# Altium integrated library Silicon Labs Isolation and Power.IntLib: 421 symbols (part 6 of 19)
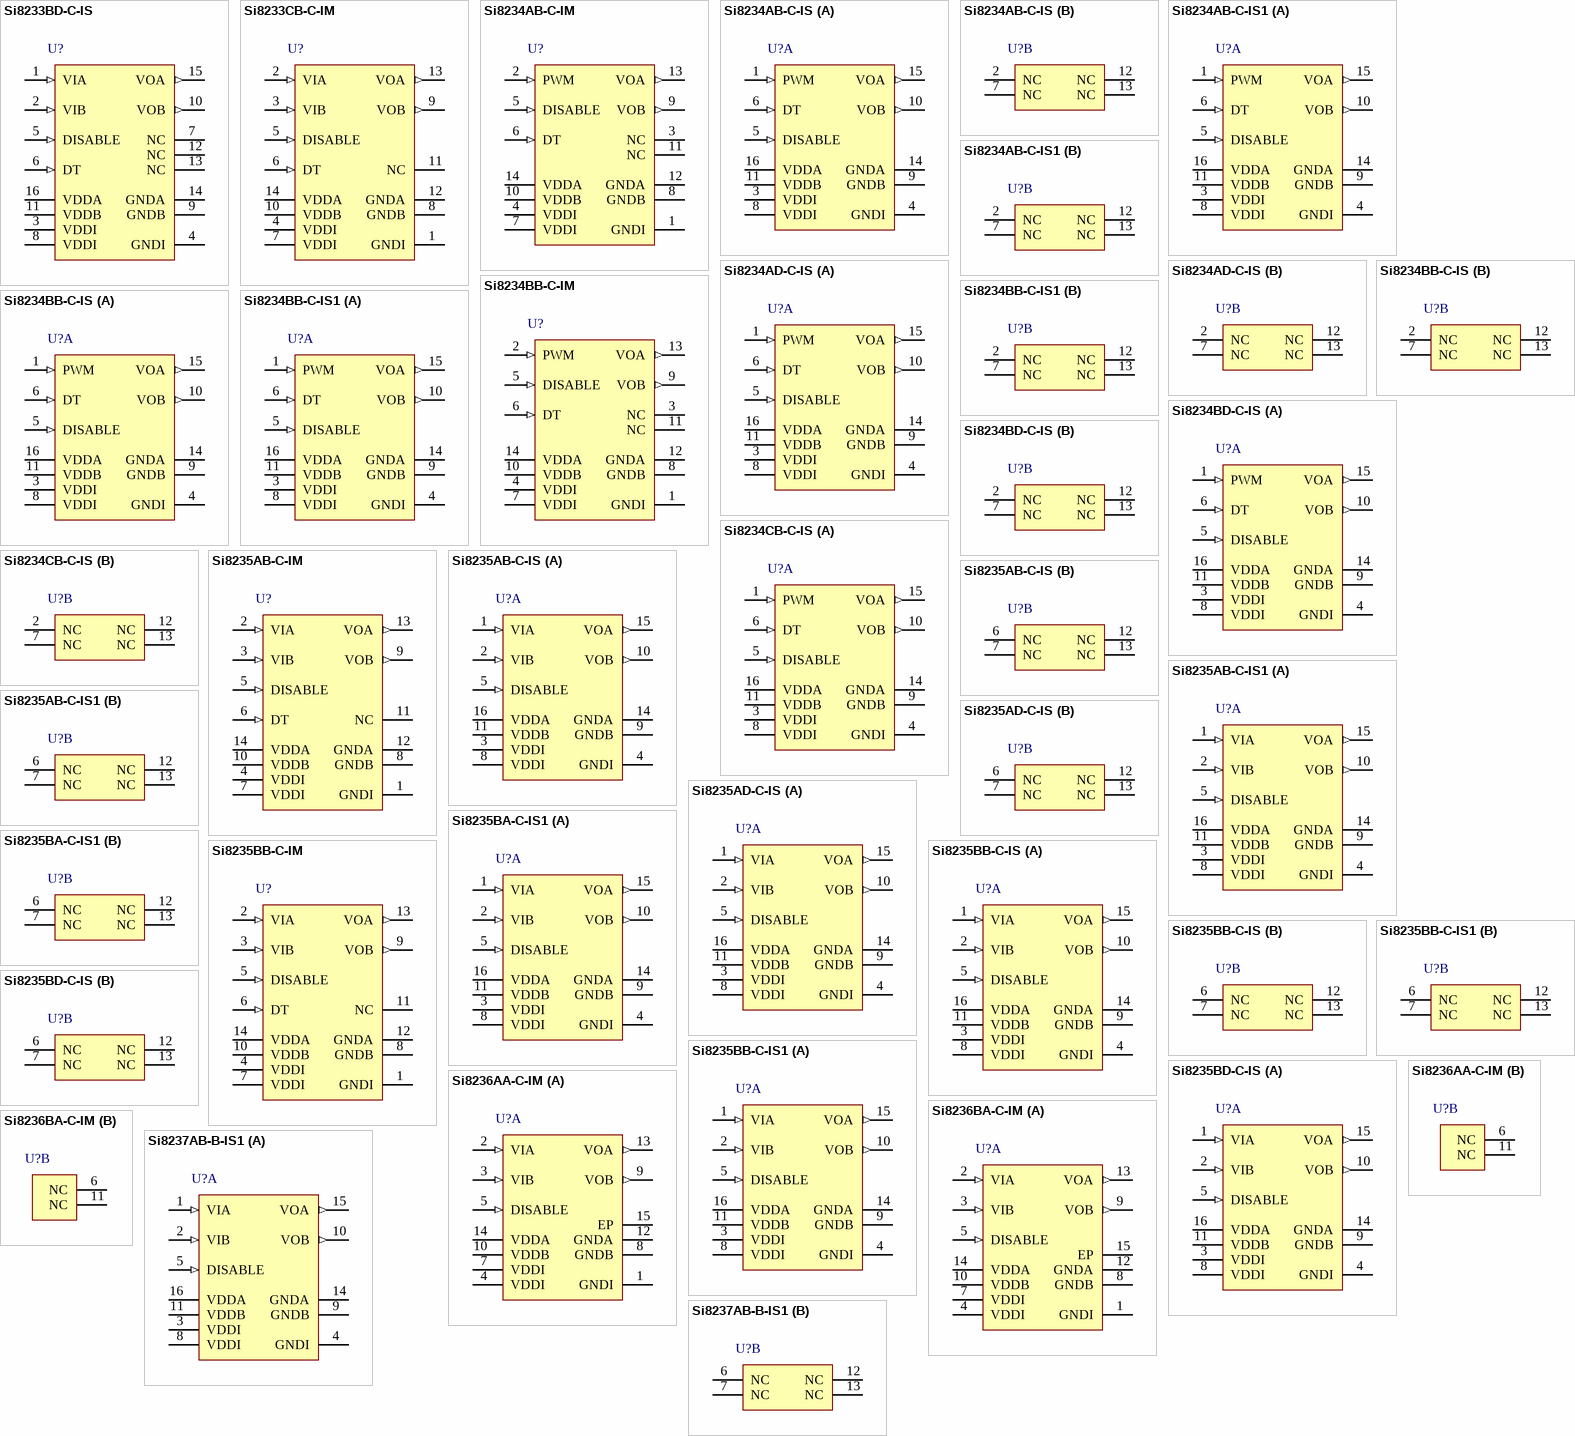
[diagram p19: symbols Si8233BD-C-IS to Si8237AB-B-IS1]

## Si8234CB-C-IS
designator U?
4 A ISOdrivers, 6.5 to 24 V Driver Supply, 2.5 kVRMS Isolation Rating, -40 to 125 degC, 16-pin SOIC; Manufacturer: Silicon Labs; PartNumber: Si8234CB-C-IS; Note: 0; 10kV surge: FALSE; Input Supply: 4.5 to 5.5 V; Isolation Rating (Input-Output, kVrms): 2.5; Max. Prop. Delay (ns): 60; Overlap Protection & Dead Time Control: TRUE; UVLO Voltage: 10 V; DatasheetVersion: Rev. 1.4; PackageReference: SOIC-16-WB; PackageDescription: 16-Pin Wide Body Plastic Small Outline, Body 10.3 x 7.5 mm, Pitch 1.27 mm; Driver Supply: 6.5 to 24 V; Input VDD: 4.5 to 5.5 V; Sub-Family: ISOdrivers; Mounting Technology: Surface Mount; Code_JEDEC: MS-013; ComponentLink1Description: Manufacturer URL; ComponentLink1URL: http://www.silabs.com/; ComponentLink2Description: Datasheet; ComponentLink2URL: https://www.silabs.com/Support%20Documents/TechnicalDocs/Si823x.pdf; ComponentLink3Description: Package Specification; ComponentLink3URL: https://www.silabs.com/Support%20Documents/TechnicalDocs/Si823x.pdf
footprint SLAB-SOIC-16-WB_N (SOIC, 16-Leads, Body 10.3x7.5mm, Pitch 1.27mm, IPC Medium Density)
footprint SLAB-SOIC-16-WB_L (SOIC, 16-Leads, Body 10.3x7.5mm, Pitch 1.27mm, IPC High Density)
footprint SLAB-SOIC-16-WB_M (SOIC, 16-Leads, Body 10.3x7.5mm, Pitch 1.27mm, IPC Low Density)
part A pins: 1 PWM (in) "PWM input.", 3 VDDI (power) "Input-side power supply terminal; connect to a source of 4.5 to 5.5 V.", 4 GNDI (power) "Input-side ground terminal.", 5 DISABLE (in) "Device Disable. When high, this input unconditionally drives outputs VOA, VOB LOW. It is strongly recommended that this input be connected to external logic level to avoid erroneous operation due to capacitive noise coupling.", 6 DT (in) "Dead time programming input. The value of the resistor connected from DT to ground sets the dead time between output transitions of VOA and VOB. Defaults to 1 ns dead time when connected to VDDI or left open (see "3.8. (See Datasheet)", 8 VDDI (power) "Input-side power supply terminal; connect to a source of 4.5 to 5.5 V.", 9 GNDB (power) "Ground terminal for Driver B.", 10 VOB (out) "Driver B output (low-side driver).", 11 VDDB (power) "Driver B power supply voltage terminal; connect to a source of 6.5 to 24 V.", 14 GNDA (power) "Ground terminal for Driver A.", 15 VOA (out) "Driver A output (high-side driver).", 16 VDDA (power) "Driver A power supply voltage terminal; connect to a source of 6.5 to 24 V."
part B pins: 2 NC "No connection.", 7 NC "No connection.", 12 NC "No connection.", 13 NC "No connection."

## Si8235AB-C-IM
designator U?
4 A ISOdrivers, 6.5 to 24 V Driver Supply, 2.5 kVRMS Isolation Rating, -40 to 125 degC, 14-pin LGA; Manufacturer: Silicon Labs; PartNumber: Si8235AB-C-IM; 10kV surge: FALSE; Input Supply: 4.5 to 5.5 V; Isolation Rating (Input-Output, kVrms): 2.5; Max. Prop. Delay (ns): 60; UVLO Voltage: 5 V; DatasheetVersion: Rev. 1.4; PackageReference: LGA14; PackageDescription: 14-Pin Land Grid Array, Body 5 x 5 mm, Pitch 0.65 mm; Supplier 1: Digi-Key; Supplier Part Number 1: SI8235AB-C-IM-ND; Supplier 2: Mouser; Supplier Part Number 2: 634-SI8235AB-C-IM; Driver Supply: 6.5 to 24 V; Input VDD: 4.5 to 5.5 V; Overlap Protection & Dead Time Control: FALSE; Sub-Family: ISOdrivers; Mounting Technology: Surface Mount; Code_IPC: J-STD-020; ComponentLink1Description: Manufacturer URL; ComponentLink1URL: http://www.silabs.com/; ComponentLink2Description: Datasheet; ComponentLink2URL: https://www.silabs.com/Support%20Documents/TechnicalDocs/Si823x.pdf; ComponentLink3Description: Package Specification; ComponentLink3URL: https://www.silabs.com/Support%20Documents/TechnicalDocs/Si823x.pdf
footprint SLAB-LGA14_V (LGA, 14-Leads, Body 5x5mm, Pitch 0.65mm)
pins: 1 GNDI (power) "Input-side ground terminal.", 2 VIA (in) "Non-inverting logic input terminal for Driver A.", 3 VIB (in) "Non-inverting logic input terminal for Driver B.", 4 VDDI (power) "Input-side power supply terminal; connect to a source of 4.5 to 5.5 V.", 5 DISABLE (in) "Device Disable. When high, this input unconditionally drives outputs VOA, VOB LOW. It is strongly recommended that this input be connected to external logic level to avoid erroneous operation due to capacitive noise coupling.", 6 DT (in) "Dead time programming input. The value of the resistor connected from DT to ground sets the dead time between output transitions of VOA and VOB. Defaults to 1 ns dead time when connected to VDDI or left open (see"3.8. (See Datasheet)", 7 VDDI (power) "Input-side power supply terminal; connect to a source of 4.5 to 5.5 V.", 8 GNDB (power) "Ground terminal for Driver B.", 9 VOB (out) "Driver B output (low-side driver).", 10 VDDB (power) "Driver B power supply voltage terminal; connect to a source of 6.5 to 24 V.", 11 NC "No connection.", 12 GNDA (power) "Ground terminal for Driver A.", 13 VOA (out) "Driver A output (high-side driver).", 14 VDDA (power) "Driver A power supply voltage terminal; connect to a source of 6.5 to 24 V."

## Si8235AB-C-IS
designator U?
4 A ISOdrivers, 6.5 to 24 V Driver Supply, 2.5 kVRMS Isolation Rating, -40 to 125 degC, 16-pin SOIC; Manufacturer: Silicon Labs; PartNumber: Si8235AB-C-IS; 10kV surge: FALSE; Input Supply: 4.5 to 5.5 V; Isolation Rating (Input-Output, kVrms): 2.5; Max. Prop. Delay (ns): 60; UVLO Voltage: 5 V; DatasheetVersion: Rev. 1.4; PackageReference: SOIC-16-WB; PackageDescription: 16-Pin Wide Body Plastic Small Outline, Body 10.3 x 7.5 mm, Pitch 1.27 mm; Supplier 1: Digi-Key; Supplier Part Number 1: SI8235AB-C-IS-ND; Supplier 2: Mouser; Supplier Part Number 2: 634-SI8235AB-C-IS; Driver Supply: 6.5 to 24 V; Input VDD: 4.5 to 5.5 V; Overlap Protection & Dead Time Control: FALSE; Sub-Family: ISOdrivers; Mounting Technology: Surface Mount; Code_JEDEC: MS-013; ComponentLink1Description: Manufacturer URL; ComponentLink1URL: http://www.silabs.com/; ComponentLink2Description: Datasheet; ComponentLink2URL: https://www.silabs.com/Support%20Documents/TechnicalDocs/Si823x.pdf; ComponentLink3Description: Package Specification; ComponentLink3URL: https://www.silabs.com/Support%20Documents/TechnicalDocs/Si823x.pdf
footprint SLAB-SOIC-16-WB_N (SOIC, 16-Leads, Body 10.3x7.5mm, Pitch 1.27mm, IPC Medium Density)
footprint SLAB-SOIC-16-WB_L (SOIC, 16-Leads, Body 10.3x7.5mm, Pitch 1.27mm, IPC High Density)
footprint SLAB-SOIC-16-WB_M (SOIC, 16-Leads, Body 10.3x7.5mm, Pitch 1.27mm, IPC Low Density)
part A pins: 1 VIA (in) "Non-inverting logic input terminal for Driver A.", 2 VIB (in) "Non-inverting logic input terminal for Driver B.", 3 VDDI (power) "Input-side power supply terminal; connect to a source of 4.5 to 5.5 V.", 4 GNDI (power) "Input-side ground terminal.", 5 DISABLE (in) "Device Disable. When high, this input unconditionally drives outputs VOA, VOB LOW. It is strongly recommended that this input be connected to external logic level to avoid erroneous operation due to capacitive noise coupling.", 8 VDDI (power) "Input-side power supply terminal; connect to a source of 4.5 to 5.5 V.", 9 GNDB (power) "Ground terminal for Driver B.", 10 VOB (out) "Driver B output", 11 VDDB (power) "Driver B power supply voltage terminal; connect to a source of 6.5 to 24 V.", 14 GNDA (power) "Ground terminal for Driver A.", 15 VOA (out) "Driver A output", 16 VDDA (power) "Driver A power supply voltage terminal; connect to a source of 6.5 to 24 V."
part B pins: 6 NC "No connection.", 7 NC "No connection.", 12 NC "No connection.", 13 NC "No connection."

## Si8235AB-C-IS1
designator U?
4 A ISOdrivers, 6.5 to 24 V Driver Supply, 2.5 kVRMS Isolation Rating, -40 to 125 degC, 16-pin SOIC; Manufacturer: Silicon Labs; PartNumber: Si8235AB-C-IS1; 10kV surge: FALSE; Input Supply: 4.5 to 5.5 V; Isolation Rating (Input-Output, kVrms): 2.5; Max. Prop. Delay (ns): 60; UVLO Voltage: 5 V; DatasheetVersion: Rev. 1.4; PackageReference: SOIC-16-NB; PackageDescription: 16-Pin Small-Outline Integrated Circuit, Body 9.9 x 3.9 mm, Pitch 1.27 mm; Supplier 1: Digi-Key; Supplier Part Number 1: SI8235AB-C-IS1-ND; Supplier 2: Mouser; Supplier Part Number 2: 634-SI8235AB-C-IS1; Driver Supply: 6.5 to 24 V; Input VDD: 4.5 to 5.5 V; Overlap Protection & Dead Time Control: FALSE; Sub-Family: ISOdrivers; Mounting Technology: Surface Mount; Code_JEDEC: MS-012; Code_IPC: J-STD-020; ComponentLink1Description: Manufacturer URL; ComponentLink1URL: http://www.silabs.com/; ComponentLink2Description: Datasheet; ComponentLink2URL: https://www.silabs.com/Support%20Documents/TechnicalDocs/Si823x.pdf; ComponentLink3Description: Package Specification; ComponentLink3URL: http://www.silabs.com/Support%20Documents/TechnicalDocs/si2401.pdf
footprint SLAB-SOIC-16-NB_N (SOIC, 16-Leads, Body 9.9x3.9mm, Pitch 1.27mm, IPC Medium Density)
footprint SLAB-SOIC-16-NB_L (SOIC, 16-Leads, Body 9.9x3.9mm, Pitch 1.27mm, IPC High Density)
footprint SLAB-SOIC-16-NB_M (SOIC, 16-Leads, Body 9.9x3.9mm, Pitch 1.27mm, IPC Low Density)
part A pins: 1 VIA (in) "Non-inverting logic input terminal for Driver A.", 2 VIB (in) "Non-inverting logic input terminal for Driver B.", 3 VDDI (power) "Input-side power supply terminal; connect to a source of 4.5 to 5.5 V.", 4 GNDI (power) "Input-side ground terminal.", 5 DISABLE (in) "Device Disable. When high, this input unconditionally drives outputs VOA, VOB LOW. It is strongly recommended that this input be connected to external logic level to avoid erroneous operation due to capacitive noise coupling.", 8 VDDI (power) "Input-side power supply terminal; connect to a source of 4.5 to 5.5 V.", 9 GNDB (power) "Ground terminal for Driver B.", 10 VOB (out) "Driver B output", 11 VDDB (power) "Driver B power supply voltage terminal; connect to a source of 6.5 to 24 V.", 14 GNDA (power) "Ground terminal for Driver A.", 15 VOA (out) "Driver A output", 16 VDDA (power) "Driver A power supply voltage terminal; connect to a source of 6.5 to 24 V."
part B pins: 6 NC "No connection.", 7 NC "No connection.", 12 NC "No connection.", 13 NC "No connection."

## Si8235AD-C-IS
designator U?
4 A ISOdrivers, 6.5 to 24 V Driver Supply, 5 kVRMS Isolation Rating, -40 to 125 degC, 16-pin SOIC; Manufacturer: Silicon Labs; PartNumber: Si8235AD-C-IS; 10kV surge: FALSE; Input Supply: 4.5 to 5.5 V; Isolation Rating (Input-Output, kVrms): 5; Max. Prop. Delay (ns): 60; UVLO Voltage: 5 V; DatasheetVersion: Rev. 1.4; PackageReference: SOIC-16-WB; PackageDescription: 16-Pin Wide Body Plastic Small Outline, Body 10.3 x 7.5 mm, Pitch 1.27 mm; Supplier 1: Digi-Key; Supplier Part Number 1: SI8235AD-C-IS-ND; Supplier 2: Mouser; Supplier Part Number 2: 634-SI8235AD-C-IS; Driver Supply: 6.5 to 24 V; Input VDD: 4.5 to 5.5 V; Overlap Protection & Dead Time Control: FALSE; Sub-Family: ISOdrivers; Mounting Technology: Surface Mount; Code_JEDEC: MS-013; ComponentLink1Description: Manufacturer URL; ComponentLink1URL: http://www.silabs.com/; ComponentLink2Description: Datasheet; ComponentLink2URL: https://www.silabs.com/Support%20Documents/TechnicalDocs/Si823x.pdf; ComponentLink3Description: Package Specification; ComponentLink3URL: https://www.silabs.com/Support%20Documents/TechnicalDocs/Si823x.pdf
footprint SLAB-SOIC-16-WB_N (SOIC, 16-Leads, Body 10.3x7.5mm, Pitch 1.27mm, IPC Medium Density)
footprint SLAB-SOIC-16-WB_L (SOIC, 16-Leads, Body 10.3x7.5mm, Pitch 1.27mm, IPC High Density)
footprint SLAB-SOIC-16-WB_M (SOIC, 16-Leads, Body 10.3x7.5mm, Pitch 1.27mm, IPC Low Density)
part A pins: 1 VIA (in) "Non-inverting logic input terminal for Driver A.", 2 VIB (in) "Non-inverting logic input terminal for Driver B.", 3 VDDI (power) "Input-side power supply terminal; connect to a source of 4.5 to 5.5 V.", 4 GNDI (power) "Input-side ground terminal.", 5 DISABLE (in) "Device Disable. When high, this input unconditionally drives outputs VOA, VOB LOW. It is strongly recommended that this input be connected to external logic level to avoid erroneous operation due to capacitive noise coupling.", 8 VDDI (power) "Input-side power supply terminal; connect to a source of 4.5 to 5.5 V.", 9 GNDB (power) "Ground terminal for Driver B.", 10 VOB (out) "Driver B output", 11 VDDB (power) "Driver B power supply voltage terminal; connect to a source of 6.5 to 24 V.", 14 GNDA (power) "Ground terminal for Driver A.", 15 VOA (out) "Driver A output", 16 VDDA (power) "Driver A power supply voltage terminal; connect to a source of 6.5 to 24 V."
part B pins: 6 NC "No connection.", 7 NC "No connection.", 12 NC "No connection.", 13 NC "No connection."

## Si8235BA-C-IS1
designator U?
4 A ISOdrivers, 6.5 to 24 V Driver Supply, 1 kVRMS Isolation Rating, -40 to 125 degC, 16-pin SOIC; Manufacturer: Silicon Labs; PartNumber: Si8235BA-C-IS1; Note: 0; 10kV surge: FALSE; Input Supply: 4.5 to 5.5 V; Isolation Rating (Input-Output, kVrms): 1; Max. Prop. Delay (ns): 60; UVLO Voltage: 8 V; DatasheetVersion: Rev. 1.4; PackageReference: SOIC-16-NB; PackageDescription: 16-Pin Small-Outline Integrated Circuit, Body 9.9 x 3.9 mm, Pitch 1.27 mm; Driver Supply: 6.5 to 24 V; Input VDD: 4.5 to 5.5 V; Overlap Protection & Dead Time Control: FALSE; Sub-Family: ISOdrivers; Mounting Technology: Surface Mount; Code_JEDEC: MS-012; Code_IPC: J-STD-020; ComponentLink1Description: Manufacturer URL; ComponentLink1URL: http://www.silabs.com/; ComponentLink2Description: Datasheet; ComponentLink2URL: https://www.silabs.com/Support%20Documents/TechnicalDocs/Si823x.pdf; ComponentLink3Description: Package Specification; ComponentLink3URL: http://www.silabs.com/Support%20Documents/TechnicalDocs/si2401.pdf
footprint SLAB-SOIC-16-NB_N (SOIC, 16-Leads, Body 9.9x3.9mm, Pitch 1.27mm, IPC Medium Density)
footprint SLAB-SOIC-16-NB_L (SOIC, 16-Leads, Body 9.9x3.9mm, Pitch 1.27mm, IPC High Density)
footprint SLAB-SOIC-16-NB_M (SOIC, 16-Leads, Body 9.9x3.9mm, Pitch 1.27mm, IPC Low Density)
part A pins: 1 VIA (in) "Non-inverting logic input terminal for Driver A.", 2 VIB (in) "Non-inverting logic input terminal for Driver B.", 3 VDDI (power) "Input-side power supply terminal; connect to a source of 4.5 to 5.5 V.", 4 GNDI (power) "Input-side ground terminal.", 5 DISABLE (in) "Device Disable. When high, this input unconditionally drives outputs VOA, VOB LOW. It is strongly recommended that this input be connected to external logic level to avoid erroneous operation due to capacitive noise coupling.", 8 VDDI (power) "Input-side power supply terminal; connect to a source of 4.5 to 5.5 V.", 9 GNDB (power) "Ground terminal for Driver B.", 10 VOB (out) "Driver B output", 11 VDDB (power) "Driver B power supply voltage terminal; connect to a source of 6.5 to 24 V.", 14 GNDA (power) "Ground terminal for Driver A.", 15 VOA (out) "Driver A output", 16 VDDA (power) "Driver A power supply voltage terminal; connect to a source of 6.5 to 24 V."
part B pins: 6 NC "No connection.", 7 NC "No connection.", 12 NC "No connection.", 13 NC "No connection."

## Si8235BB-C-IM
designator U?
4 A ISOdrivers, 6.5 to 24 V Driver Supply, 2.5 kVRMS Isolation Rating, -40 to 125 degC, 14-pin LGA; Manufacturer: Silicon Labs; PartNumber: Si8235BB-C-IM; 10kV surge: FALSE; Input Supply: 4.5 to 5.5 V; Isolation Rating (Input-Output, kVrms): 2.5; Max. Prop. Delay (ns): 60; UVLO Voltage: 8 V; DatasheetVersion: Rev. 1.4; PackageReference: LGA14; PackageDescription: 14-Pin Land Grid Array, Body 5 x 5 mm, Pitch 0.65 mm; Supplier 1: Digi-Key; Supplier Part Number 1: SI8235BB-C-IM-ND; Supplier 2: Mouser; Supplier Part Number 2: 634-SI8235BB-C-IM; Driver Supply: 6.5 to 24 V; Input VDD: 4.5 to 5.5 V; Overlap Protection & Dead Time Control: FALSE; Sub-Family: ISOdrivers; Mounting Technology: Surface Mount; Code_IPC: J-STD-020; ComponentLink1Description: Manufacturer URL; ComponentLink1URL: http://www.silabs.com/; ComponentLink2Description: Datasheet; ComponentLink2URL: https://www.silabs.com/Support%20Documents/TechnicalDocs/Si823x.pdf; ComponentLink3Description: Package Specification; ComponentLink3URL: https://www.silabs.com/Support%20Documents/TechnicalDocs/Si823x.pdf
footprint SLAB-LGA14_V (LGA, 14-Leads, Body 5x5mm, Pitch 0.65mm)
pins: 1 GNDI (power) "Input-side ground terminal.", 2 VIA (in) "Non-inverting logic input terminal for Driver A.", 3 VIB (in) "Non-inverting logic input terminal for Driver B.", 4 VDDI (power) "Input-side power supply terminal; connect to a source of 4.5 to 5.5 V.", 5 DISABLE (in) "Device Disable. When high, this input unconditionally drives outputs VOA, VOB LOW. It is strongly recommended that this input be connected to external logic level to avoid erroneous operation due to capacitive noise coupling.", 6 DT (in) "Dead time programming input. The value of the resistor connected from DT to ground sets the dead time between output transitions of VOA and VOB. Defaults to 1 ns dead time when connected to VDDI or left open (see"3.8. (See Datasheet)", 7 VDDI (power) "Input-side power supply terminal; connect to a source of 4.5 to 5.5 V.", 8 GNDB (power) "Ground terminal for Driver B.", 9 VOB (out) "Driver B output (low-side driver).", 10 VDDB (power) "Driver B power supply voltage terminal; connect to a source of 6.5 to 24 V.", 11 NC "No connection.", 12 GNDA (power) "Ground terminal for Driver A.", 13 VOA (out) "Driver A output (high-side driver).", 14 VDDA (power) "Driver A power supply voltage terminal; connect to a source of 6.5 to 24 V."

## Si8235BB-C-IS
designator U?
4 A ISOdrivers, 6.5 to 24 V Driver Supply, 2.5 kVRMS Isolation Rating, -40 to 125 degC, 16-pin SOIC; Manufacturer: Silicon Labs; PartNumber: Si8235BB-C-IS; 10kV surge: FALSE; Input Supply: 4.5 to 5.5 V; Isolation Rating (Input-Output, kVrms): 2.5; Max. Prop. Delay (ns): 60; UVLO Voltage: 8 V; DatasheetVersion: Rev. 1.4; PackageReference: SOIC-16-WB; PackageDescription: 16-Pin Wide Body Plastic Small Outline, Body 10.3 x 7.5 mm, Pitch 1.27 mm; Supplier 1: Digi-Key; Supplier Part Number 1: 336-1899-5-ND; Supplier 2: Mouser; Supplier Part Number 2: 634-SI8235BB-C-IS; Driver Supply: 6.5 to 24 V; Input VDD: 4.5 to 5.5 V; Overlap Protection & Dead Time Control: FALSE; Sub-Family: ISOdrivers; Mounting Technology: Surface Mount; Code_JEDEC: MS-013; ComponentLink1Description: Manufacturer URL; ComponentLink1URL: http://www.silabs.com/; ComponentLink2Description: Datasheet; ComponentLink2URL: https://www.silabs.com/Support%20Documents/TechnicalDocs/Si823x.pdf; ComponentLink3Description: Package Specification; ComponentLink3URL: https://www.silabs.com/Support%20Documents/TechnicalDocs/Si823x.pdf
footprint SLAB-SOIC-16-WB_N (SOIC, 16-Leads, Body 10.3x7.5mm, Pitch 1.27mm, IPC Medium Density)
footprint SLAB-SOIC-16-WB_L (SOIC, 16-Leads, Body 10.3x7.5mm, Pitch 1.27mm, IPC High Density)
footprint SLAB-SOIC-16-WB_M (SOIC, 16-Leads, Body 10.3x7.5mm, Pitch 1.27mm, IPC Low Density)
part A pins: 1 VIA (in) "Non-inverting logic input terminal for Driver A.", 2 VIB (in) "Non-inverting logic input terminal for Driver B.", 3 VDDI (power) "Input-side power supply terminal; connect to a source of 4.5 to 5.5 V.", 4 GNDI (power) "Input-side ground terminal.", 5 DISABLE (in) "Device Disable. When high, this input unconditionally drives outputs VOA, VOB LOW. It is strongly recommended that this input be connected to external logic level to avoid erroneous operation due to capacitive noise coupling.", 8 VDDI (power) "Input-side power supply terminal; connect to a source of 4.5 to 5.5 V.", 9 GNDB (power) "Ground terminal for Driver B.", 10 VOB (out) "Driver B output", 11 VDDB (power) "Driver B power supply voltage terminal; connect to a source of 6.5 to 24 V.", 14 GNDA (power) "Ground terminal for Driver A.", 15 VOA (out) "Driver A output", 16 VDDA (power) "Driver A power supply voltage terminal; connect to a source of 6.5 to 24 V."
part B pins: 6 NC "No connection.", 7 NC "No connection.", 12 NC "No connection.", 13 NC "No connection."

## Si8235BB-C-IS1
designator U?
4 A ISOdrivers, 6.5 to 24 V Driver Supply, 2.5 kVRMS Isolation Rating, -40 to 125 degC, 16-pin SOIC; Manufacturer: Silicon Labs; PartNumber: Si8235BB-C-IS1; 10kV surge: FALSE; Input Supply: 4.5 to 5.5 V; Isolation Rating (Input-Output, kVrms): 2.5; Max. Prop. Delay (ns): 60; UVLO Voltage: 8 V; DatasheetVersion: Rev. 1.4; PackageReference: SOIC-16-NB; PackageDescription: 16-Pin Small-Outline Integrated Circuit, Body 9.9 x 3.9 mm, Pitch 1.27 mm; Supplier 1: Digi-Key; Supplier Part Number 1: 336-1898-5-ND; Supplier 2: Mouser; Supplier Part Number 2: 634-SI8235BB-C-IS1; Driver Supply: 6.5 to 24 V; Input VDD: 4.5 to 5.5 V; Overlap Protection & Dead Time Control: FALSE; Sub-Family: ISOdrivers; Mounting Technology: Surface Mount; Code_JEDEC: MS-012; Code_IPC: J-STD-020; ComponentLink1Description: Manufacturer URL; ComponentLink1URL: http://www.silabs.com/; ComponentLink2Description: Datasheet; ComponentLink2URL: https://www.silabs.com/Support%20Documents/TechnicalDocs/Si823x.pdf; ComponentLink3Description: Package Specification; ComponentLink3URL: http://www.silabs.com/Support%20Documents/TechnicalDocs/si2401.pdf
footprint SLAB-SOIC-16-NB_N (SOIC, 16-Leads, Body 9.9x3.9mm, Pitch 1.27mm, IPC Medium Density)
footprint SLAB-SOIC-16-NB_L (SOIC, 16-Leads, Body 9.9x3.9mm, Pitch 1.27mm, IPC High Density)
footprint SLAB-SOIC-16-NB_M (SOIC, 16-Leads, Body 9.9x3.9mm, Pitch 1.27mm, IPC Low Density)
part A pins: 1 VIA (in) "Non-inverting logic input terminal for Driver A.", 2 VIB (in) "Non-inverting logic input terminal for Driver B.", 3 VDDI (power) "Input-side power supply terminal; connect to a source of 4.5 to 5.5 V.", 4 GNDI (power) "Input-side ground terminal.", 5 DISABLE (in) "Device Disable. When high, this input unconditionally drives outputs VOA, VOB LOW. It is strongly recommended that this input be connected to external logic level to avoid erroneous operation due to capacitive noise coupling.", 8 VDDI (power) "Input-side power supply terminal; connect to a source of 4.5 to 5.5 V.", 9 GNDB (power) "Ground terminal for Driver B.", 10 VOB (out) "Driver B output", 11 VDDB (power) "Driver B power supply voltage terminal; connect to a source of 6.5 to 24 V.", 14 GNDA (power) "Ground terminal for Driver A.", 15 VOA (out) "Driver A output", 16 VDDA (power) "Driver A power supply voltage terminal; connect to a source of 6.5 to 24 V."
part B pins: 6 NC "No connection.", 7 NC "No connection.", 12 NC "No connection.", 13 NC "No connection."

## Si8235BD-C-IS
designator U?
4 A ISOdrivers, 6.5 to 24 V Driver Supply, 5 kVRMS Isolation Rating, -40 to 125 degC, 16-pin SOIC; Manufacturer: Silicon Labs; PartNumber: Si8235BD-C-IS; 10kV surge: FALSE; Input Supply: 4.5 to 5.5 V; Isolation Rating (Input-Output, kVrms): 5; Max. Prop. Delay (ns): 60; UVLO Voltage: 8 V; DatasheetVersion: Rev. 1.4; PackageReference: SOIC-16-WB; PackageDescription: 16-Pin Wide Body Plastic Small Outline, Body 10.3 x 7.5 mm, Pitch 1.27 mm; Supplier 1: Digi-Key; Supplier Part Number 1: 336-1897-5-ND; Supplier 2: Mouser; Supplier Part Number 2: 634-SI8235BD-C-IS; Driver Supply: 6.5 to 24 V; Input VDD: 4.5 to 5.5 V; Overlap Protection & Dead Time Control: FALSE; Sub-Family: ISOdrivers; Mounting Technology: Surface Mount; Code_JEDEC: MS-013; ComponentLink1Description: Manufacturer URL; ComponentLink1URL: http://www.silabs.com/; ComponentLink2Description: Datasheet; ComponentLink2URL: https://www.silabs.com/Support%20Documents/TechnicalDocs/Si823x.pdf; ComponentLink3Description: Package Specification; ComponentLink3URL: https://www.silabs.com/Support%20Documents/TechnicalDocs/Si823x.pdf
footprint SLAB-SOIC-16-WB_N (SOIC, 16-Leads, Body 10.3x7.5mm, Pitch 1.27mm, IPC Medium Density)
footprint SLAB-SOIC-16-WB_L (SOIC, 16-Leads, Body 10.3x7.5mm, Pitch 1.27mm, IPC High Density)
footprint SLAB-SOIC-16-WB_M (SOIC, 16-Leads, Body 10.3x7.5mm, Pitch 1.27mm, IPC Low Density)
part A pins: 1 VIA (in) "Non-inverting logic input terminal for Driver A.", 2 VIB (in) "Non-inverting logic input terminal for Driver B.", 3 VDDI (power) "Input-side power supply terminal; connect to a source of 4.5 to 5.5 V.", 4 GNDI (power) "Input-side ground terminal.", 5 DISABLE (in) "Device Disable. When high, this input unconditionally drives outputs VOA, VOB LOW. It is strongly recommended that this input be connected to external logic level to avoid erroneous operation due to capacitive noise coupling.", 8 VDDI (power) "Input-side power supply terminal; connect to a source of 4.5 to 5.5 V.", 9 GNDB (power) "Ground terminal for Driver B.", 10 VOB (out) "Driver B output", 11 VDDB (power) "Driver B power supply voltage terminal; connect to a source of 6.5 to 24 V.", 14 GNDA (power) "Ground terminal for Driver A.", 15 VOA (out) "Driver A output", 16 VDDA (power) "Driver A power supply voltage terminal; connect to a source of 6.5 to 24 V."
part B pins: 6 NC "No connection.", 7 NC "No connection.", 12 NC "No connection.", 13 NC "No connection."

## Si8236AA-C-IM
designator U?
4 A ISOdrivers, 6.5 to 24 V Driver Supply, 1 kVRMS Isolation Rating, -40 to 125 degC, 14-pin LGA; Manufacturer: Silicon Labs; PartNumber: Si8236AA-C-IM; 10kV surge: FALSE; Input Supply: 4.5 to 5.5 V; Isolation Rating (Input-Output, kVrms): 1; Max. Prop. Delay (ns): 60; UVLO Voltage: 5 V; DatasheetVersion: Rev. 1.4; PackageReference: LGA14-EP; PackageDescription: 14-Pin Land Grid Array, Body 5 x 5 mm, Pitch 0.65 mm; Supplier 1: Digi-Key; Supplier Part Number 1: SI8236AA-C-IM-ND; Supplier 2: Mouser; Supplier Part Number 2: 634-SI8236AA-C-IM; Driver Supply: 6.5 to 24 V; Input VDD: 4.5 to 5.5 V; Overlap Protection & Dead Time Control: FALSE; Sub-Family: ISOdrivers; Mounting Technology: Surface Mount; Code_IPC: J-STD-020; ComponentLink1Description: Manufacturer URL; ComponentLink1URL: http://www.silabs.com/; ComponentLink2Description: Datasheet; ComponentLink2URL: https://www.silabs.com/Support%20Documents/TechnicalDocs/Si823x.pdf; ComponentLink3Description: Package Specification; ComponentLink3URL: https://www.silabs.com/Support%20Documents/TechnicalDocs/Si823x.pdf
footprint SLAB-LGA14-EP_V (LGA, 14-Leads, Body 5x5mm, Pitch 0.65mm)
part A pins: 1 GNDI (power) "Input-side ground terminal.", 2 VIA (in) "Non-inverting logic input terminal for Driver A.", 3 VIB (in) "Non-inverting logic input terminal for Driver B.", 4 VDDI (power) "Input-side power supply terminal; connect to a source of 4.5 to 5.5 V.", 5 DISABLE (in) "Device Disable. When high, this input unconditionally drives outputs VOA, VOB LOW. It is strongly recommended that this input be connected to external logic level to avoid erroneous operation due to capacitive noise coupling.", 7 VDDI (power) "Input-side power supply terminal; connect to a source of 4.5 to 5.5 V.", 8 GNDB (power) "Ground terminal for Driver B.", 9 VOB (out) "Driver B output", 10 VDDB (power) "Driver B power supply voltage terminal; connect to a source of 6.5 to 24 V.", 12 GNDA (power) "Ground terminal for Driver A.", 13 VOA (out) "Driver A output", 14 VDDA (power) "Driver A power supply voltage terminal; connect to a source of 6.5 to 24 V.", 15 EP (power)
part B pins: 6 NC "No connection.", 11 NC "No connection."

## Si8236BA-C-IM
designator U?
4 A ISOdrivers, 6.5 to 24 V Driver Supply, 1 kVRMS Isolation Rating, -40 to 125 degC, 14-pin LGA; Manufacturer: Silicon Labs; PartNumber: Si8236BA-C-IM; 10kV surge: FALSE; Input Supply: 4.5 to 5.5 V; Isolation Rating (Input-Output, kVrms): 1; Max. Prop. Delay (ns): 60; UVLO Voltage: 8 V; DatasheetVersion: Rev. 1.4; PackageReference: LGA14-EP; PackageDescription: 14-Pin Land Grid Array, Body 5 x 5 mm, Pitch 0.65 mm; Supplier 1: Digi-Key; Supplier Part Number 1: SI8236BA-C-IM-ND; Supplier 2: Mouser; Supplier Part Number 2: 634-SI8236BA-C-IM; Driver Supply: 6.5 to 24 V; Input VDD: 4.5 to 5.5 V; Overlap Protection & Dead Time Control: FALSE; Sub-Family: ISOdrivers; Mounting Technology: Surface Mount; Code_IPC: J-STD-020; ComponentLink1Description: Manufacturer URL; ComponentLink1URL: http://www.silabs.com/; ComponentLink2Description: Datasheet; ComponentLink2URL: https://www.silabs.com/Support%20Documents/TechnicalDocs/Si823x.pdf; ComponentLink3Description: Package Specification; ComponentLink3URL: https://www.silabs.com/Support%20Documents/TechnicalDocs/Si823x.pdf
footprint SLAB-LGA14-EP_V (LGA, 14-Leads, Body 5x5mm, Pitch 0.65mm)
part A pins: 1 GNDI (power) "Input-side ground terminal.", 2 VIA (in) "Non-inverting logic input terminal for Driver A.", 3 VIB (in) "Non-inverting logic input terminal for Driver B.", 4 VDDI (power) "Input-side power supply terminal; connect to a source of 4.5 to 5.5 V.", 5 DISABLE (in) "Device Disable. When high, this input unconditionally drives outputs VOA, VOB LOW. It is strongly recommended that this input be connected to external logic level to avoid erroneous operation due to capacitive noise coupling.", 7 VDDI (power) "Input-side power supply terminal; connect to a source of 4.5 to 5.5 V.", 8 GNDB (power) "Ground terminal for Driver B.", 9 VOB (out) "Driver B output", 10 VDDB (power) "Driver B power supply voltage terminal; connect to a source of 6.5 to 24 V.", 12 GNDA (power) "Ground terminal for Driver A.", 13 VOA (out) "Driver A output", 14 VDDA (power) "Driver A power supply voltage terminal; connect to a source of 6.5 to 24 V.", 15 EP (power)
part B pins: 6 NC "No connection.", 11 NC "No connection."

## Si8237AB-B-IS1
designator U?
0.5 A ISOdrivers, 6.5 to 24 V Driver Supply, 2.5 kVRMS Isolation Rating, -40 to 125 degC, 16-pin SOIC; Manufacturer: Silicon Labs; PartNumber: Si8237AB-B-IS1; 10kV surge: TRUE; Input Supply: 2.7 to 5.5 V; Input VDD: 4.5 to 5.5 V; Isolation Rating (Input-Output, kVrms): 2.5; Max. Prop. Delay (ns): 60; Overlap Protection & Dead Time Control: FALSE; UVLO Voltage: 5 V; DatasheetVersion: Rev. 1.4; PackageReference: SOIC-16-NB; PackageDescription: 16-Pin Small-Outline Integrated Circuit, Body 9.9 x 3.9 mm, Pitch 1.27 mm; Supplier 1: Digi-Key; Supplier Part Number 1: SI8237AB-B-IS1-ND; Supplier 2: Mouser; Supplier Part Number 2: 634-SI8237AB-B-IS1; Driver Supply: 6.5 to 24 V; Sub-Family: ISOdrivers; Mounting Technology: Surface Mount; Code_JEDEC: MS-012; Code_IPC: J-STD-020; ComponentLink1Description: Manufacturer URL; ComponentLink1URL: http://www.silabs.com/; ComponentLink2Description: Datasheet; ComponentLink2URL: https://www.silabs.com/Support%20Documents/TechnicalDocs/Si823x.pdf; ComponentLink3Description: Package Specification; ComponentLink3URL: http://www.silabs.com/Support%20Documents/TechnicalDocs/si2401.pdf
footprint SLAB-SOIC-16-NB_N (SOIC, 16-Leads, Body 9.9x3.9mm, Pitch 1.27mm, IPC Medium Density)
footprint SLAB-SOIC-16-NB_L (SOIC, 16-Leads, Body 9.9x3.9mm, Pitch 1.27mm, IPC High Density)
footprint SLAB-SOIC-16-NB_M (SOIC, 16-Leads, Body 9.9x3.9mm, Pitch 1.27mm, IPC Low Density)
part A pins: 1 VIA (in) "Non-inverting logic input terminal for Driver A.", 2 VIB (in) "Non-inverting logic input terminal for Driver B.", 3 VDDI (power) "Input-side power supply terminal; connect to a source of 4.5 to 5.5 V.", 4 GNDI (power) "Input-side ground terminal.", 5 DISABLE (in) "Device Disable. When high, this input unconditionally drives outputs VOA, VOB LOW. It is strongly recommended that this input be connected to external logic level to avoid erroneous operation due to capacitive noise coupling.", 8 VDDI (power) "Input-side power supply terminal; connect to a source of 4.5 to 5.5 V.", 9 GNDB (power) "Ground terminal for Driver B.", 10 VOB (out) "Driver B output", 11 VDDB (power) "Driver B power supply voltage terminal; connect to a source of 6.5 to 24 V.", 14 GNDA (power) "Ground terminal for Driver A.", 15 VOA (out) "Driver A output", 16 VDDA (power) "Driver A power supply voltage terminal; connect to a source of 6.5 to 24 V."
part B pins: 6 NC "No connection.", 7 NC "No connection.", 12 NC "No connection.", 13 NC "No connection."

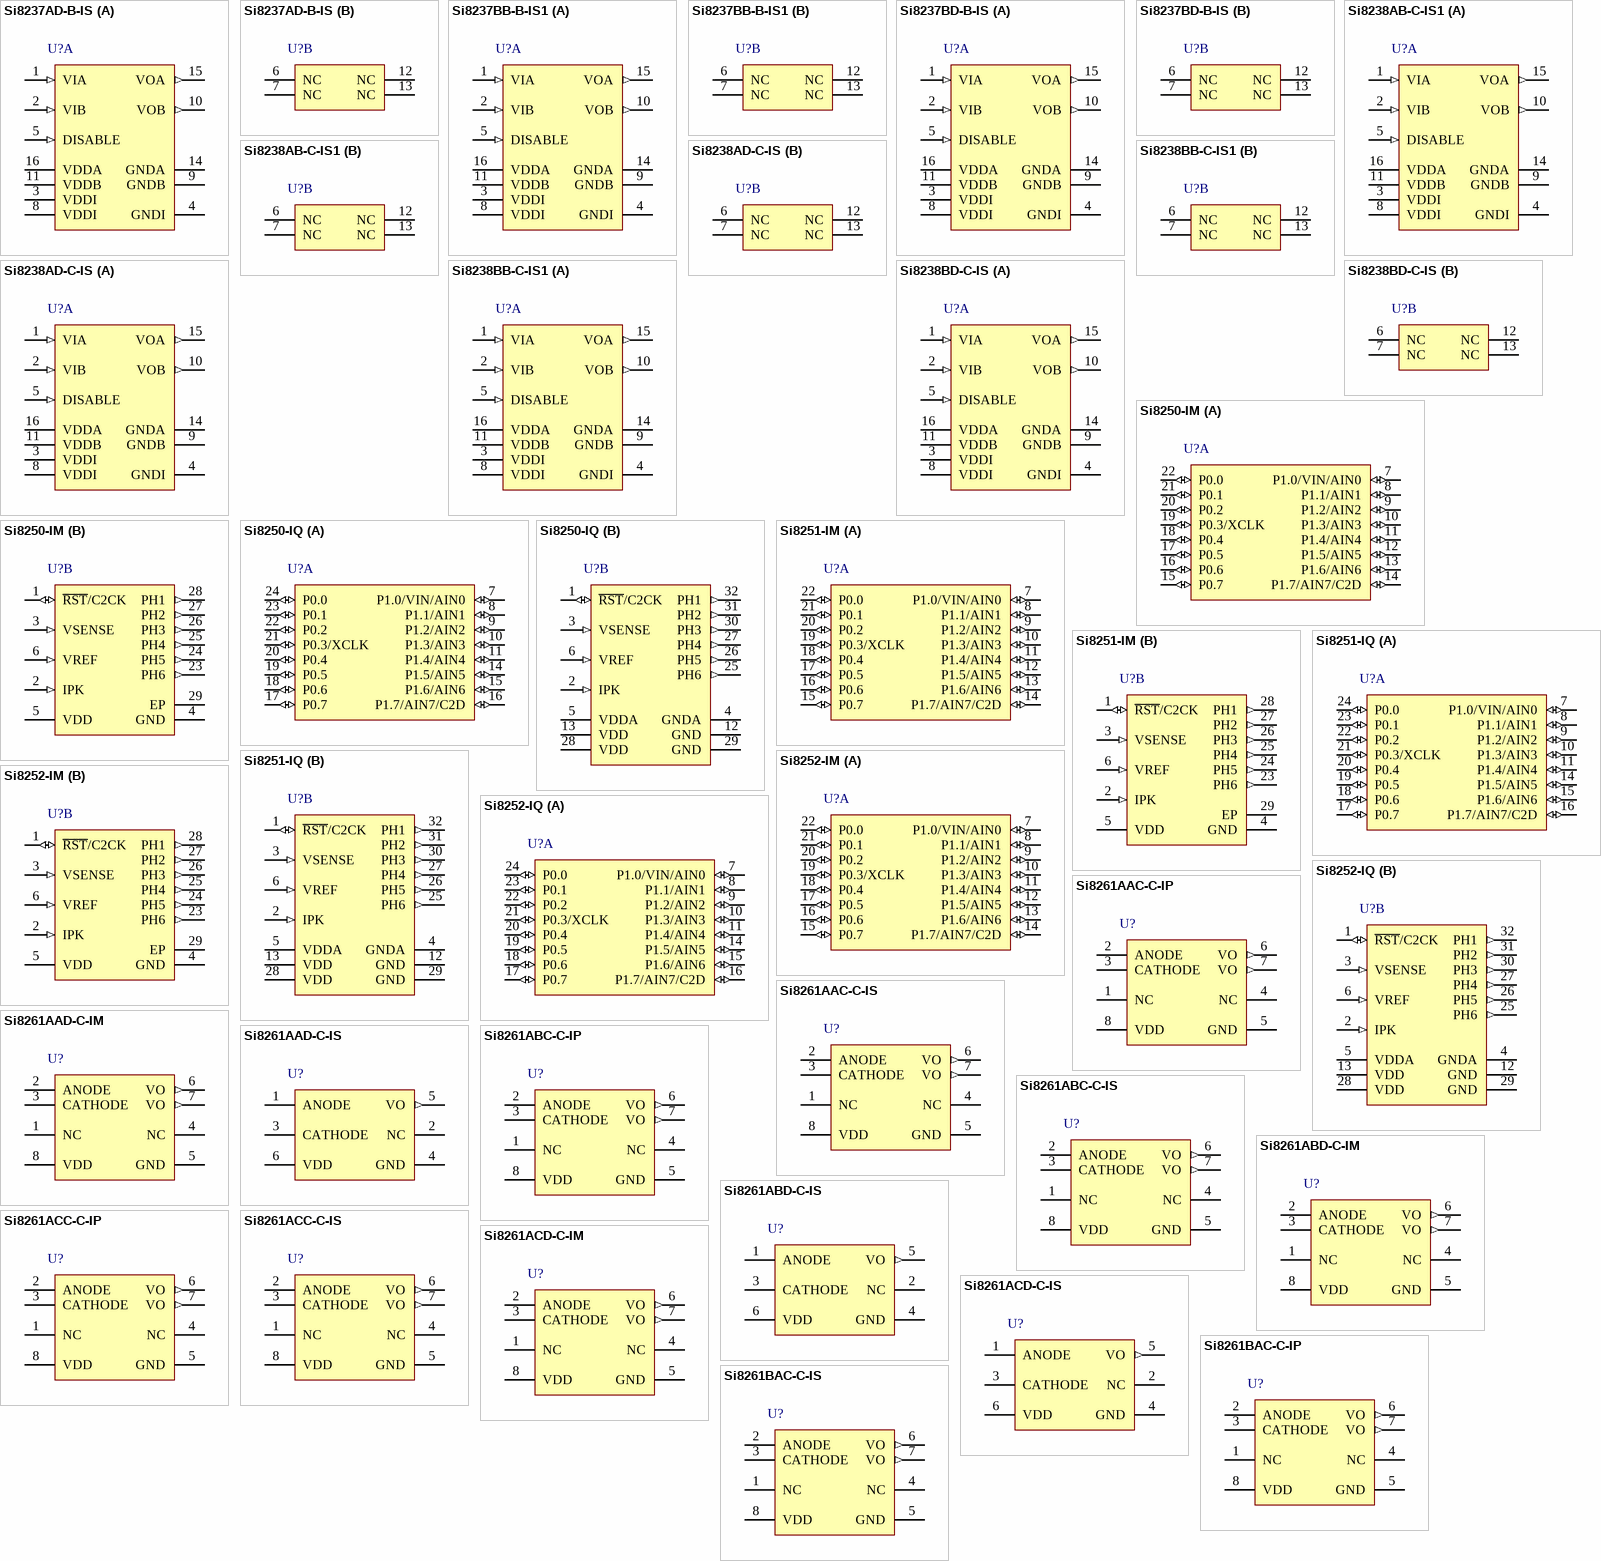
[diagram p4: symbols Si8237AD-B-IS to Si8261BAC-C-IS]

## Si8237AD-B-IS
designator U?
0.5 A ISOdrivers, 6.5 to 24 V Driver Supply, 5 kVRMS Isolation Rating, -40 to 125 degC, 16-pin SOIC; Manufacturer: Silicon Labs; PartNumber: Si8237AD-B-IS; 10kV surge: TRUE; Input Supply: 2.7 to 5.5 V; Input VDD: 4.5 to 5.5 V; Isolation Rating (Input-Output, kVrms): 5; Max. Prop. Delay (ns): 60; Overlap Protection & Dead Time Control: FALSE; UVLO Voltage: 5 V; DatasheetVersion: Rev. 1.4; PackageReference: SOIC-16-WB; PackageDescription: 16-Pin Wide Body Plastic Small Outline, Body 10.3 x 7.5 mm, Pitch 1.27 mm; Supplier 1: Digi-Key; Supplier Part Number 1: SI8237AD-B-IS-ND; Supplier 2: Mouser; Supplier Part Number 2: 634-SI8237AD-B-IS; Driver Supply: 6.5 to 24 V; Sub-Family: ISOdrivers; Mounting Technology: Surface Mount; Code_JEDEC: MS-013; ComponentLink1Description: Manufacturer URL; ComponentLink1URL: http://www.silabs.com/; ComponentLink2Description: Datasheet; ComponentLink2URL: https://www.silabs.com/Support%20Documents/TechnicalDocs/Si823x.pdf; ComponentLink3Description: Package Specification; ComponentLink3URL: https://www.silabs.com/Support%20Documents/TechnicalDocs/Si823x.pdf
footprint SLAB-SOIC-16-WB_N (SOIC, 16-Leads, Body 10.3x7.5mm, Pitch 1.27mm, IPC Medium Density)
footprint SLAB-SOIC-16-WB_L (SOIC, 16-Leads, Body 10.3x7.5mm, Pitch 1.27mm, IPC High Density)
footprint SLAB-SOIC-16-WB_M (SOIC, 16-Leads, Body 10.3x7.5mm, Pitch 1.27mm, IPC Low Density)
part A pins: 1 VIA (in) "Non-inverting logic input terminal for Driver A.", 2 VIB (in) "Non-inverting logic input terminal for Driver B.", 3 VDDI (power) "Input-side power supply terminal; connect to a source of 4.5 to 5.5 V.", 4 GNDI (power) "Input-side ground terminal.", 5 DISABLE (in) "Device Disable. When high, this input unconditionally drives outputs VOA, VOB LOW. It is strongly recommended that this input be connected to external logic level to avoid erroneous operation due to capacitive noise coupling.", 8 VDDI (power) "Input-side power supply terminal; connect to a source of 4.5 to 5.5 V.", 9 GNDB (power) "Ground terminal for Driver B.", 10 VOB (out) "Driver B output", 11 VDDB (power) "Driver B power supply voltage terminal; connect to a source of 6.5 to 24 V.", 14 GNDA (power) "Ground terminal for Driver A.", 15 VOA (out) "Driver A output", 16 VDDA (power) "Driver A power supply voltage terminal; connect to a source of 6.5 to 24 V."
part B pins: 6 NC "No connection.", 7 NC "No connection.", 12 NC "No connection.", 13 NC "No connection."

## Si8237BB-B-IS1
designator U?
0.5 A ISOdrivers, 6.5 to 24 V Driver Supply, 2.5 kVRMS Isolation Rating, -40 to 125 degC, 16-pin SOIC; Manufacturer: Silicon Labs; PartNumber: Si8237BB-B-IS1; 10kV surge: TRUE; Input Supply: 2.7 to 5.5 V; Input VDD: 4.5 to 5.5 V; Isolation Rating (Input-Output, kVrms): 2.5; Max. Prop. Delay (ns): 60; Overlap Protection & Dead Time Control: FALSE; UVLO Voltage: 8 V; DatasheetVersion: Rev. 1.4; PackageReference: SOIC-16-NB; PackageDescription: 16-Pin Small-Outline Integrated Circuit, Body 9.9 x 3.9 mm, Pitch 1.27 mm; Supplier 1: Digi-Key; Supplier Part Number 1: SI8237BB-B-IS1-ND; Supplier 2: Mouser; Supplier Part Number 2: 634-SI8237BB-B-IS1; Driver Supply: 6.5 to 24 V; Sub-Family: ISOdrivers; Mounting Technology: Surface Mount; Code_JEDEC: MS-012; Code_IPC: J-STD-020; ComponentLink1Description: Manufacturer URL; ComponentLink1URL: http://www.silabs.com/; ComponentLink2Description: Datasheet; ComponentLink2URL: https://www.silabs.com/Support%20Documents/TechnicalDocs/Si823x.pdf; ComponentLink3Description: Package Specification; ComponentLink3URL: http://www.silabs.com/Support%20Documents/TechnicalDocs/si2401.pdf
footprint SLAB-SOIC-16-NB_N (SOIC, 16-Leads, Body 9.9x3.9mm, Pitch 1.27mm, IPC Medium Density)
footprint SLAB-SOIC-16-NB_L (SOIC, 16-Leads, Body 9.9x3.9mm, Pitch 1.27mm, IPC High Density)
footprint SLAB-SOIC-16-NB_M (SOIC, 16-Leads, Body 9.9x3.9mm, Pitch 1.27mm, IPC Low Density)
part A pins: 1 VIA (in) "Non-inverting logic input terminal for Driver A.", 2 VIB (in) "Non-inverting logic input terminal for Driver B.", 3 VDDI (power) "Input-side power supply terminal; connect to a source of 4.5 to 5.5 V.", 4 GNDI (power) "Input-side ground terminal.", 5 DISABLE (in) "Device Disable. When high, this input unconditionally drives outputs VOA, VOB LOW. It is strongly recommended that this input be connected to external logic level to avoid erroneous operation due to capacitive noise coupling.", 8 VDDI (power) "Input-side power supply terminal; connect to a source of 4.5 to 5.5 V.", 9 GNDB (power) "Ground terminal for Driver B.", 10 VOB (out) "Driver B output", 11 VDDB (power) "Driver B power supply voltage terminal; connect to a source of 6.5 to 24 V.", 14 GNDA (power) "Ground terminal for Driver A.", 15 VOA (out) "Driver A output", 16 VDDA (power) "Driver A power supply voltage terminal; connect to a source of 6.5 to 24 V."
part B pins: 6 NC "No connection.", 7 NC "No connection.", 12 NC "No connection.", 13 NC "No connection."

## Si8237BD-B-IS
designator U?
0.5 A ISOdrivers, 6.5 to 24 V Driver Supply, 5 kVRMS Isolation Rating, -40 to 125 degC, 16-pin SOIC; Manufacturer: Silicon Labs; PartNumber: Si8237BD-B-IS; 10kV surge: TRUE; Input Supply: 2.7 to 5.5 V; Input VDD: 4.5 to 5.5 V; Isolation Rating (Input-Output, kVrms): 5; Max. Prop. Delay (ns): 60; Overlap Protection & Dead Time Control: FALSE; UVLO Voltage: 8 V; DatasheetVersion: Rev. 1.4; PackageReference: SOIC-16-WB; PackageDescription: 16-Pin Wide Body Plastic Small Outline, Body 10.3 x 7.5 mm, Pitch 1.27 mm; Supplier 1: Digi-Key; Supplier Part Number 1: SI8237BD-B-IS-ND; Supplier 2: Mouser; Supplier Part Number 2: 634-SI8237BD-B-IS; Driver Supply: 6.5 to 24 V; Sub-Family: ISOdrivers; Mounting Technology: Surface Mount; Code_JEDEC: MS-013; ComponentLink1Description: Manufacturer URL; ComponentLink1URL: http://www.silabs.com/; ComponentLink2Description: Datasheet; ComponentLink2URL: https://www.silabs.com/Support%20Documents/TechnicalDocs/Si823x.pdf; ComponentLink3Description: Package Specification; ComponentLink3URL: https://www.silabs.com/Support%20Documents/TechnicalDocs/Si823x.pdf
footprint SLAB-SOIC-16-WB_N (SOIC, 16-Leads, Body 10.3x7.5mm, Pitch 1.27mm, IPC Medium Density)
footprint SLAB-SOIC-16-WB_L (SOIC, 16-Leads, Body 10.3x7.5mm, Pitch 1.27mm, IPC High Density)
footprint SLAB-SOIC-16-WB_M (SOIC, 16-Leads, Body 10.3x7.5mm, Pitch 1.27mm, IPC Low Density)
part A pins: 1 VIA (in) "Non-inverting logic input terminal for Driver A.", 2 VIB (in) "Non-inverting logic input terminal for Driver B.", 3 VDDI (power) "Input-side power supply terminal; connect to a source of 4.5 to 5.5 V.", 4 GNDI (power) "Input-side ground terminal.", 5 DISABLE (in) "Device Disable. When high, this input unconditionally drives outputs VOA, VOB LOW. It is strongly recommended that this input be connected to external logic level to avoid erroneous operation due to capacitive noise coupling.", 8 VDDI (power) "Input-side power supply terminal; connect to a source of 4.5 to 5.5 V.", 9 GNDB (power) "Ground terminal for Driver B.", 10 VOB (out) "Driver B output", 11 VDDB (power) "Driver B power supply voltage terminal; connect to a source of 6.5 to 24 V.", 14 GNDA (power) "Ground terminal for Driver A.", 15 VOA (out) "Driver A output", 16 VDDA (power) "Driver A power supply voltage terminal; connect to a source of 6.5 to 24 V."
part B pins: 6 NC "No connection.", 7 NC "No connection.", 12 NC "No connection.", 13 NC "No connection."

## Si8238AB-C-IS1
designator U?
4 A ISOdrivers, 6.5 to 24 V Driver Supply, 2.5 kVRMS Isolation Rating, -40 to 125 degC, 16-pin SOIC; Manufacturer: Silicon Labs; PartNumber: Si8238AB-C-IS1; 10kV surge: TRUE; Input Supply: 2.7 to 5.5 V; Input VDD: 4.5 to 5.5 V; Isolation Rating (Input-Output, kVrms): 2.5; Max. Prop. Delay (ns): 60; Overlap Protection & Dead Time Control: FALSE; UVLO Voltage: 5 V; DatasheetVersion: Rev. 1.4; PackageReference: SOIC-16-NB; PackageDescription: 16-Pin Small-Outline Integrated Circuit, Body 9.9 x 3.9 mm, Pitch 1.27 mm; Supplier 1: Digi-Key; Supplier Part Number 1: SI8238AB-C-IS1-ND; Supplier 2: Mouser; Supplier Part Number 2: 634-SI8238AB-C-IS1; Driver Supply: 6.5 to 24 V; Sub-Family: ISOdrivers; Mounting Technology: Surface Mount; Code_JEDEC: MS-012; Code_IPC: J-STD-020; ComponentLink1Description: Manufacturer URL; ComponentLink1URL: http://www.silabs.com/; ComponentLink2Description: Datasheet; ComponentLink2URL: https://www.silabs.com/Support%20Documents/TechnicalDocs/Si823x.pdf; ComponentLink3Description: Package Specification; ComponentLink3URL: http://www.silabs.com/Support%20Documents/TechnicalDocs/si2401.pdf
footprint SLAB-SOIC-16-NB_N (SOIC, 16-Leads, Body 9.9x3.9mm, Pitch 1.27mm, IPC Medium Density)
footprint SLAB-SOIC-16-NB_L (SOIC, 16-Leads, Body 9.9x3.9mm, Pitch 1.27mm, IPC High Density)
footprint SLAB-SOIC-16-NB_M (SOIC, 16-Leads, Body 9.9x3.9mm, Pitch 1.27mm, IPC Low Density)
part A pins: 1 VIA (in) "Non-inverting logic input terminal for Driver A.", 2 VIB (in) "Non-inverting logic input terminal for Driver B.", 3 VDDI (power) "Input-side power supply terminal; connect to a source of 4.5 to 5.5 V.", 4 GNDI (power) "Input-side ground terminal.", 5 DISABLE (in) "Device Disable. When high, this input unconditionally drives outputs VOA, VOB LOW. It is strongly recommended that this input be connected to external logic level to avoid erroneous operation due to capacitive noise coupling.", 8 VDDI (power) "Input-side power supply terminal; connect to a source of 4.5 to 5.5 V.", 9 GNDB (power) "Ground terminal for Driver B.", 10 VOB (out) "Driver B output", 11 VDDB (power) "Driver B power supply voltage terminal; connect to a source of 6.5 to 24 V.", 14 GNDA (power) "Ground terminal for Driver A.", 15 VOA (out) "Driver A output", 16 VDDA (power) "Driver A power supply voltage terminal; connect to a source of 6.5 to 24 V."
part B pins: 6 NC "No connection.", 7 NC "No connection.", 12 NC "No connection.", 13 NC "No connection."

## Si8238AD-C-IS
designator U?
4 A ISOdrivers, 6.5 to 24 V Driver Supply, 5 kVRMS Isolation Rating, -40 to 125 degC, 16-pin SOIC; Manufacturer: Silicon Labs; PartNumber: Si8238AD-C-IS; 10kV surge: TRUE; Input Supply: 2.7 to 5.5 V; Input VDD: 4.5 to 5.5 V; Isolation Rating (Input-Output, kVrms): 5; Max. Prop. Delay (ns): 60; Overlap Protection & Dead Time Control: FALSE; UVLO Voltage: 5 V; DatasheetVersion: Rev. 1.4; PackageReference: SOIC-16-WB; PackageDescription: 16-Pin Wide Body Plastic Small Outline, Body 10.3 x 7.5 mm, Pitch 1.27 mm; Supplier 1: Digi-Key; Supplier Part Number 1: SI8238AD-C-IS-ND; Supplier 2: Mouser; Supplier Part Number 2: 634-SI8238AD-C-IS; Driver Supply: 6.5 to 24 V; Sub-Family: ISOdrivers; Mounting Technology: Surface Mount; Code_JEDEC: MS-013; ComponentLink1Description: Manufacturer URL; ComponentLink1URL: http://www.silabs.com/; ComponentLink2Description: Datasheet; ComponentLink2URL: https://www.silabs.com/Support%20Documents/TechnicalDocs/Si823x.pdf; ComponentLink3Description: Package Specification; ComponentLink3URL: https://www.silabs.com/Support%20Documents/TechnicalDocs/Si823x.pdf
footprint SLAB-SOIC-16-WB_N (SOIC, 16-Leads, Body 10.3x7.5mm, Pitch 1.27mm, IPC Medium Density)
footprint SLAB-SOIC-16-WB_L (SOIC, 16-Leads, Body 10.3x7.5mm, Pitch 1.27mm, IPC High Density)
footprint SLAB-SOIC-16-WB_M (SOIC, 16-Leads, Body 10.3x7.5mm, Pitch 1.27mm, IPC Low Density)
part A pins: 1 VIA (in) "Non-inverting logic input terminal for Driver A.", 2 VIB (in) "Non-inverting logic input terminal for Driver B.", 3 VDDI (power) "Input-side power supply terminal; connect to a source of 4.5 to 5.5 V.", 4 GNDI (power) "Input-side ground terminal.", 5 DISABLE (in) "Device Disable. When high, this input unconditionally drives outputs VOA, VOB LOW. It is strongly recommended that this input be connected to external logic level to avoid erroneous operation due to capacitive noise coupling.", 8 VDDI (power) "Input-side power supply terminal; connect to a source of 4.5 to 5.5 V.", 9 GNDB (power) "Ground terminal for Driver B.", 10 VOB (out) "Driver B output", 11 VDDB (power) "Driver B power supply voltage terminal; connect to a source of 6.5 to 24 V.", 14 GNDA (power) "Ground terminal for Driver A.", 15 VOA (out) "Driver A output", 16 VDDA (power) "Driver A power supply voltage terminal; connect to a source of 6.5 to 24 V."
part B pins: 6 NC "No connection.", 7 NC "No connection.", 12 NC "No connection.", 13 NC "No connection."

## Si8238BB-C-IS1
designator U?
4 A ISOdrivers, 6.5 to 24 V Driver Supply, 2.5 kVRMS Isolation Rating, -40 to 125 degC, 16-pin SOIC; Manufacturer: Silicon Labs; PartNumber: Si8238BB-C-IS1; 10kV surge: TRUE; Input Supply: 2.7 to 5.5 V; Input VDD: 4.5 to 5.5 V; Isolation Rating (Input-Output, kVrms): 2.5; Max. Prop. Delay (ns): 60; Overlap Protection & Dead Time Control: FALSE; UVLO Voltage: 8 V; DatasheetVersion: Rev. 1.4; PackageReference: SOIC-16-NB; PackageDescription: 16-Pin Small-Outline Integrated Circuit, Body 9.9 x 3.9 mm, Pitch 1.27 mm; Supplier 1: Digi-Key; Supplier Part Number 1: SI8238BB-C-IS1-ND; Supplier 2: Mouser; Supplier Part Number 2: 634-SI8238BB-C-IS1; Driver Supply: 6.5 to 24 V; Sub-Family: ISOdrivers; Mounting Technology: Surface Mount; Code_JEDEC: MS-012; Code_IPC: J-STD-020; ComponentLink1Description: Manufacturer URL; ComponentLink1URL: http://www.silabs.com/; ComponentLink2Description: Datasheet; ComponentLink2URL: https://www.silabs.com/Support%20Documents/TechnicalDocs/Si823x.pdf; ComponentLink3Description: Package Specification; ComponentLink3URL: http://www.silabs.com/Support%20Documents/TechnicalDocs/si2401.pdf
footprint SLAB-SOIC-16-NB_N (SOIC, 16-Leads, Body 9.9x3.9mm, Pitch 1.27mm, IPC Medium Density)
footprint SLAB-SOIC-16-NB_L (SOIC, 16-Leads, Body 9.9x3.9mm, Pitch 1.27mm, IPC High Density)
footprint SLAB-SOIC-16-NB_M (SOIC, 16-Leads, Body 9.9x3.9mm, Pitch 1.27mm, IPC Low Density)
part A pins: 1 VIA (in) "Non-inverting logic input terminal for Driver A.", 2 VIB (in) "Non-inverting logic input terminal for Driver B.", 3 VDDI (power) "Input-side power supply terminal; connect to a source of 4.5 to 5.5 V.", 4 GNDI (power) "Input-side ground terminal.", 5 DISABLE (in) "Device Disable. When high, this input unconditionally drives outputs VOA, VOB LOW. It is strongly recommended that this input be connected to external logic level to avoid erroneous operation due to capacitive noise coupling.", 8 VDDI (power) "Input-side power supply terminal; connect to a source of 4.5 to 5.5 V.", 9 GNDB (power) "Ground terminal for Driver B.", 10 VOB (out) "Driver B output", 11 VDDB (power) "Driver B power supply voltage terminal; connect to a source of 6.5 to 24 V.", 14 GNDA (power) "Ground terminal for Driver A.", 15 VOA (out) "Driver A output", 16 VDDA (power) "Driver A power supply voltage terminal; connect to a source of 6.5 to 24 V."
part B pins: 6 NC "No connection.", 7 NC "No connection.", 12 NC "No connection.", 13 NC "No connection."

## Si8238BD-C-IS
designator U?
4 A ISOdrivers, 6.5 to 24 V Driver Supply, 5 kVRMS Isolation Rating, -40 to 125 degC, 16-pin SOIC; Manufacturer: Silicon Labs; PartNumber: Si8238BD-C-IS; 10kV surge: TRUE; Input Supply: 2.7 to 5.5 V; Input VDD: 4.5 to 5.5 V; Isolation Rating (Input-Output, kVrms): 5; Max. Prop. Delay (ns): 60; Overlap Protection & Dead Time Control: FALSE; UVLO Voltage: 8 V; DatasheetVersion: Rev. 1.4; PackageReference: SOIC-16-WB; PackageDescription: 16-Pin Wide Body Plastic Small Outline, Body 10.3 x 7.5 mm, Pitch 1.27 mm; Supplier 1: Digi-Key; Supplier Part Number 1: SI8238BD-C-IS-ND; Supplier 2: Mouser; Supplier Part Number 2: 634-SI8238BD-C-IS; Driver Supply: 6.5 to 24 V; Sub-Family: ISOdrivers; Mounting Technology: Surface Mount; Code_JEDEC: MS-013; ComponentLink1Description: Manufacturer URL; ComponentLink1URL: http://www.silabs.com/; ComponentLink2Description: Datasheet; ComponentLink2URL: https://www.silabs.com/Support%20Documents/TechnicalDocs/Si823x.pdf; ComponentLink3Description: Package Specification; ComponentLink3URL: https://www.silabs.com/Support%20Documents/TechnicalDocs/Si823x.pdf
footprint SLAB-SOIC-16-WB_N (SOIC, 16-Leads, Body 10.3x7.5mm, Pitch 1.27mm, IPC Medium Density)
footprint SLAB-SOIC-16-WB_L (SOIC, 16-Leads, Body 10.3x7.5mm, Pitch 1.27mm, IPC High Density)
footprint SLAB-SOIC-16-WB_M (SOIC, 16-Leads, Body 10.3x7.5mm, Pitch 1.27mm, IPC Low Density)
part A pins: 1 VIA (in) "Non-inverting logic input terminal for Driver A.", 2 VIB (in) "Non-inverting logic input terminal for Driver B.", 3 VDDI (power) "Input-side power supply terminal; connect to a source of 4.5 to 5.5 V.", 4 GNDI (power) "Input-side ground terminal.", 5 DISABLE (in) "Device Disable. When high, this input unconditionally drives outputs VOA, VOB LOW. It is strongly recommended that this input be connected to external logic level to avoid erroneous operation due to capacitive noise coupling.", 8 VDDI (power) "Input-side power supply terminal; connect to a source of 4.5 to 5.5 V.", 9 GNDB (power) "Ground terminal for Driver B.", 10 VOB (out) "Driver B output", 11 VDDB (power) "Driver B power supply voltage terminal; connect to a source of 6.5 to 24 V.", 14 GNDA (power) "Ground terminal for Driver A.", 15 VOA (out) "Driver A output", 16 VDDA (power) "Driver A power supply voltage terminal; connect to a source of 6.5 to 24 V."
part B pins: 6 NC "No connection.", 7 NC "No connection.", 12 NC "No connection.", 13 NC "No connection."